# Altium footprint library LTC6401IUD-26TR.PcbLib: 3 footprints
Each footprint in its own frame and in the unit in brackets; x right, y up, seen from the top. Pads: shape width x height; smd on the part's side, far side on the other; paste and mask are expansions set on the pad; w line width, h text height; cw(c..) or ccw(c..) is an arc to the next point about the centre after c.
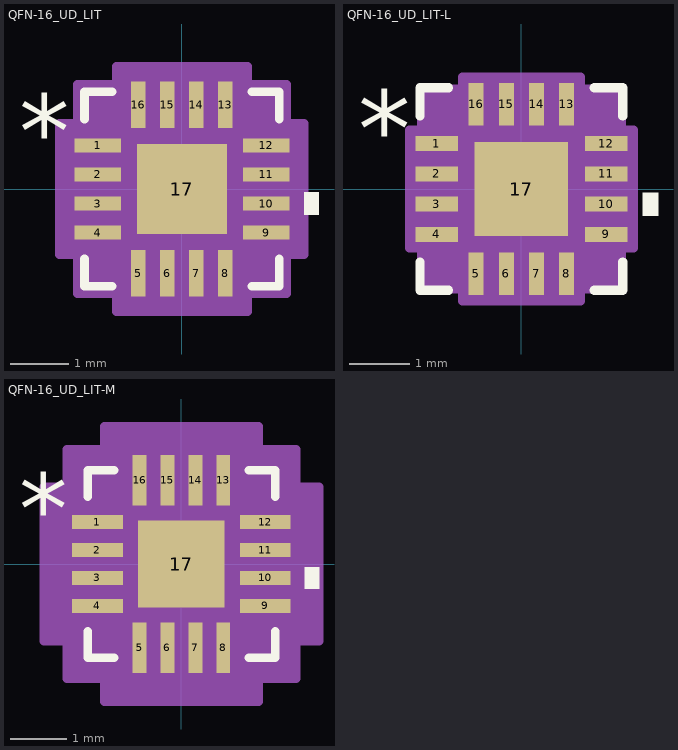
[diagram p0: the footprints below, top view; thin cyan lines are the x and y axes]

## QFN-16_UD_LIT [mm]
pads (17):
  rect 0.805x0.249 smd paste+0 mask+0: 1(-1.452,0.75) 2(-1.452,0.25) 3(-1.452,-0.25) 4(-1.452,-0.75) 9(1.452,-0.75) 10(1.452,-0.25) 11(1.452,0.25) 12(1.452,0.75)
  rect 0.249x0.805 smd paste+0 mask+0: 5(-0.75,-1.452) 6(-0.25,-1.452) 7(0.25,-1.452) 8(0.75,-1.452) 13(0.75,1.452) 14(0.25,1.452) 15(-0.25,1.452) 16(-0.75,1.452)
  rect 1.55x1.55 smd paste+0 mask+0: 17(0,0)
Top Overlay:
  region: 2.109,-0.059 2.363,-0.059 2.363,-0.44 2.109,-0.44
  lines w0.152: -1.677,-1.207 -1.677,-1.677 -1.207,-1.677 ; -1.677,1.207 -1.677,1.677 -1.207,1.677 ; 1.207,-1.677 1.677,-1.677 1.677,-1.207 ; 1.207,1.677 1.677,1.677 1.677,1.207
  text "*" at -2.807,0.365 h1.27
  text ".Designator" at -3.492,-0.635 h1.27
Mechanical 13:
  lines w0.025: -1.55,0.28 -0.28,1.55 ; -1.55,-1.55 1.55,-1.55 ; -1.55,-1.55 -1.55,1.55 ; -1.55,-1.55 -1.55,-1.55 ; -1.55,-0.9 -1.55,-0.6 ; -1.55,-0.9 -1.55,-0.6 ; -1.55,-0.9 -1.55,-0.9 ; -1.55,-0.6 -1.55,-0.6 ; -1.55,-0.4 -1.55,-0.1 ; -1.55,-0.4 -1.55,-0.1 ; -1.55,-0.4 -1.55,-0.4 ; -1.55,-0.1 -1.55,-0.1 ; -1.55,0.1 -1.55,0.4 ; -1.55,0.1 -1.55,0.4 ; -1.55,0.1 -1.55,0.1 ; -1.55,0.4 -1.55,0.4 ; -1.55,0.6 -1.55,0.9 ; -1.55,0.6 -1.55,0.9 ; -1.55,0.6 -1.55,0.6 ; -1.55,0.9 -1.55,0.9 ; -1.55,1.55 1.55,1.55 ; -1.55,1.55 -1.55,1.55 ; -0.9,-1.55 -0.6,-1.55 ; -0.9,-1.55 -0.9,-1.55 ; -0.9,-1.55 -0.6,-1.55 ; -0.9,1.55 -0.6,1.55 ; -0.9,1.55 -0.6,1.55 ; -0.9,1.55 -0.9,1.55 ; -0.6,-1.55 -0.6,-1.55 ; -0.6,1.55 -0.6,1.55 ; -0.4,-1.55 -0.1,-1.55 ; -0.4,-1.55 -0.4,-1.55 ; -0.4,-1.55 -0.1,-1.55 ; -0.4,1.55 -0.1,1.55 ; -0.4,1.55 -0.1,1.55 ; -0.4,1.55 -0.4,1.55 ; -0.1,-1.55 -0.1,-1.55 ; -0.1,1.55 -0.1,1.55 ; 0.1,-1.55 0.4,-1.55 ; 0.1,-1.55 0.1,-1.55 ; 0.1,-1.55 0.4,-1.55 ; 0.1,1.55 0.4,1.55 ; 0.1,1.55 0.4,1.55 ; 0.1,1.55 0.1,1.55 ; 0.4,-1.55 0.4,-1.55 ; 0.4,1.55 0.4,1.55 ; 0.6,-1.55 0.9,-1.55 ; 0.6,-1.55 0.6,-1.55 ; 0.6,-1.55 0.9,-1.55 ; 0.6,1.55 0.9,1.55 ; 0.6,1.55 0.9,1.55 ; 0.6,1.55 0.6,1.55 ; 0.9,-1.55 0.9,-1.55 ; 0.9,1.55 0.9,1.55 ; 1.55,-1.55 1.55,-1.55 ; 1.55,-1.55 1.55,1.55 ; 1.55,-0.9 1.55,-0.6 ; 1.55,-0.9 1.55,-0.9 ; 1.55,-0.9 1.55,-0.6 ; 1.55,-0.6 1.55,-0.6 ; 1.55,-0.4 1.55,-0.1 ; 1.55,-0.4 1.55,-0.4 ; 1.55,-0.4 1.55,-0.1 ; 1.55,-0.1 1.55,-0.1 ; 1.55,0.1 1.55,0.4 ; 1.55,0.1 1.55,0.1 ; 1.55,0.1 1.55,0.4 ; 1.55,0.4 1.55,0.4 ; 1.55,0.6 1.55,0.9 ; 1.55,0.6 1.55,0.6 ; 1.55,0.6 1.55,0.9 ; 1.55,0.9 1.55,0.9 ; 1.55,1.55 1.55,1.55
  text ".Designator" at -3.492,-0.635 h1.27
  text "*" at -1.368,0.365 h1.27
Mechanical 15:
  region: -1.129,-1.804 -1.804,-1.804 -1.804,-1.129 -2.109,-1.129 -2.109,1.129 -1.804,1.129 -1.804,1.804 -1.129,1.804 -1.129,2.109 1.129,2.109 1.129,1.804 1.804,1.804 1.804,1.129 2.109,1.129 2.109,-1.129 1.804,-1.129 1.804,-1.804 1.129,-1.804 1.129,-2.109 -1.129,-2.109
  lines w0.152: -2.109,-1.129 -1.804,-1.129 -1.804,-1.804 -1.129,-1.804 -1.129,-2.109 1.129,-2.109 1.129,-1.804 1.804,-1.804 1.804,-1.129 2.109,-1.129 2.109,1.129 1.804,1.129 1.804,1.804 1.129,1.804 1.129,2.109 -1.129,2.109 -1.129,1.804 -1.804,1.804 -1.804,1.129 -2.109,1.129 -2.109,-1.129
3D body "QFN-16_UD_LIT.step": height 0.8, standoff 0, extent -1.55,-1.55 1.55,1.55

## QFN-16_UD_LIT-L [mm]
pads (17):
  rect 0.703x0.249 smd paste+0 mask+0: 1(-1.402,0.75) 2(-1.402,0.25) 3(-1.402,-0.25) 4(-1.402,-0.75) 9(1.402,-0.75) 10(1.402,-0.25) 11(1.402,0.25) 12(1.402,0.75)
  rect 0.249x0.703 smd paste+0 mask+0: 5(-0.75,-1.402) 6(-0.25,-1.402) 7(0.25,-1.402) 8(0.75,-1.402) 13(0.75,1.402) 14(0.25,1.402) 15(-0.25,1.402) 16(-0.75,1.402)
  rect 1.55x1.55 smd paste+0 mask+0: 17(0,0)
Top Overlay:
  region: 2.007,-0.059 2.261,-0.059 2.261,-0.44 2.007,-0.44
  lines w0.152: -1.677,-1.207 -1.677,-1.677 -1.207,-1.677 ; -1.677,1.207 -1.677,1.677 -1.207,1.677 ; 1.207,-1.677 1.677,-1.677 1.677,-1.207 ; 1.207,1.677 1.677,1.677 1.677,1.207
  text "*" at -2.706,0.365 h1.27
  text ".Designator" at -3.492,-0.635 h1.27
Mechanical 13:
  lines w0.025: -1.55,0.28 -0.28,1.55 ; -1.55,-1.55 1.55,-1.55 ; -1.55,-1.55 -1.55,1.55 ; -1.55,-1.55 -1.55,-1.55 ; -1.55,-0.9 -1.55,-0.6 ; -1.55,-0.9 -1.55,-0.6 ; -1.55,-0.9 -1.55,-0.9 ; -1.55,-0.6 -1.55,-0.6 ; -1.55,-0.4 -1.55,-0.1 ; -1.55,-0.4 -1.55,-0.1 ; -1.55,-0.4 -1.55,-0.4 ; -1.55,-0.1 -1.55,-0.1 ; -1.55,0.1 -1.55,0.4 ; -1.55,0.1 -1.55,0.4 ; -1.55,0.1 -1.55,0.1 ; -1.55,0.4 -1.55,0.4 ; -1.55,0.6 -1.55,0.9 ; -1.55,0.6 -1.55,0.9 ; -1.55,0.6 -1.55,0.6 ; -1.55,0.9 -1.55,0.9 ; -1.55,1.55 1.55,1.55 ; -1.55,1.55 -1.55,1.55 ; -0.9,-1.55 -0.6,-1.55 ; -0.9,-1.55 -0.9,-1.55 ; -0.9,-1.55 -0.6,-1.55 ; -0.9,1.55 -0.6,1.55 ; -0.9,1.55 -0.6,1.55 ; -0.9,1.55 -0.9,1.55 ; -0.6,-1.55 -0.6,-1.55 ; -0.6,1.55 -0.6,1.55 ; -0.4,-1.55 -0.1,-1.55 ; -0.4,-1.55 -0.4,-1.55 ; -0.4,-1.55 -0.1,-1.55 ; -0.4,1.55 -0.1,1.55 ; -0.4,1.55 -0.1,1.55 ; -0.4,1.55 -0.4,1.55 ; -0.1,-1.55 -0.1,-1.55 ; -0.1,1.55 -0.1,1.55 ; 0.1,-1.55 0.4,-1.55 ; 0.1,-1.55 0.1,-1.55 ; 0.1,-1.55 0.4,-1.55 ; 0.1,1.55 0.4,1.55 ; 0.1,1.55 0.4,1.55 ; 0.1,1.55 0.1,1.55 ; 0.4,-1.55 0.4,-1.55 ; 0.4,1.55 0.4,1.55 ; 0.6,-1.55 0.9,-1.55 ; 0.6,-1.55 0.6,-1.55 ; 0.6,-1.55 0.9,-1.55 ; 0.6,1.55 0.9,1.55 ; 0.6,1.55 0.9,1.55 ; 0.6,1.55 0.6,1.55 ; 0.9,-1.55 0.9,-1.55 ; 0.9,1.55 0.9,1.55 ; 1.55,-1.55 1.55,-1.55 ; 1.55,-1.55 1.55,1.55 ; 1.55,-0.9 1.55,-0.6 ; 1.55,-0.9 1.55,-0.9 ; 1.55,-0.9 1.55,-0.6 ; 1.55,-0.6 1.55,-0.6 ; 1.55,-0.4 1.55,-0.1 ; 1.55,-0.4 1.55,-0.4 ; 1.55,-0.4 1.55,-0.1 ; 1.55,-0.1 1.55,-0.1 ; 1.55,0.1 1.55,0.4 ; 1.55,0.1 1.55,0.1 ; 1.55,0.1 1.55,0.4 ; 1.55,0.4 1.55,0.4 ; 1.55,0.6 1.55,0.9 ; 1.55,0.6 1.55,0.6 ; 1.55,0.6 1.55,0.9 ; 1.55,0.9 1.55,0.9 ; 1.55,1.55 1.55,1.55
  text ".Designator" at -3.492,-0.635 h1.27
  text "*" at -1.368,0.365 h1.27
Mechanical 15:
  region: -0.976,-1.652 -1.652,-1.652 -1.652,-0.976 -1.855,-0.976 -1.855,0.976 -1.652,0.976 -1.652,1.652 -0.976,1.652 -0.976,1.855 0.976,1.855 0.976,1.652 1.652,1.652 1.652,0.976 1.855,0.976 1.855,-0.976 1.652,-0.976 1.652,-1.652 0.976,-1.652 0.976,-1.855 -0.976,-1.855
  lines w0.152: -1.855,-0.976 -1.652,-0.976 -1.652,-1.652 -0.976,-1.652 -0.976,-1.855 0.976,-1.855 0.976,-1.652 1.652,-1.652 1.652,-0.976 1.855,-0.976 1.855,0.976 1.652,0.976 1.652,1.652 0.976,1.652 0.976,1.855 -0.976,1.855 -0.976,1.652 -1.652,1.652 -1.652,0.976 -1.855,0.976 -1.855,-0.976
3D body "QFN-16_UD_LIT.step": height 0.8, standoff 0, extent -1.55,-1.55 1.55,1.55

## QFN-16_UD_LIT-M [mm]
pads (17):
  rect 0.906x0.249 smd paste+0 mask+0: 1(-1.503,0.75) 2(-1.503,0.25) 3(-1.503,-0.25) 4(-1.503,-0.75) 9(1.503,-0.75) 10(1.503,-0.25) 11(1.503,0.25) 12(1.503,0.75)
  rect 0.249x0.906 smd paste+0 mask+0: 5(-0.75,-1.503) 6(-0.25,-1.503) 7(0.25,-1.503) 8(0.75,-1.503) 13(0.75,1.503) 14(0.25,1.503) 15(-0.25,1.503) 16(-0.75,1.503)
  rect 1.55x1.55 smd paste+0 mask+0: 17(0,0)
Top Overlay:
  region: 2.21,-0.059 2.464,-0.059 2.464,-0.44 2.21,-0.44
  lines w0.152: -1.677,-1.207 -1.677,-1.677 -1.207,-1.677 ; -1.677,1.207 -1.677,1.677 -1.207,1.677 ; 1.207,-1.677 1.677,-1.677 1.677,-1.207 ; 1.207,1.677 1.677,1.677 1.677,1.207
  text "*" at -2.909,0.365 h1.27
  text ".Designator" at -3.492,-0.635 h1.27
Mechanical 13:
  lines w0.025: -1.55,0.28 -0.28,1.55 ; -1.55,-1.55 1.55,-1.55 ; -1.55,-1.55 -1.55,1.55 ; -1.55,-1.55 -1.55,-1.55 ; -1.55,-0.9 -1.55,-0.6 ; -1.55,-0.9 -1.55,-0.6 ; -1.55,-0.9 -1.55,-0.9 ; -1.55,-0.6 -1.55,-0.6 ; -1.55,-0.4 -1.55,-0.1 ; -1.55,-0.4 -1.55,-0.1 ; -1.55,-0.4 -1.55,-0.4 ; -1.55,-0.1 -1.55,-0.1 ; -1.55,0.1 -1.55,0.4 ; -1.55,0.1 -1.55,0.4 ; -1.55,0.1 -1.55,0.1 ; -1.55,0.4 -1.55,0.4 ; -1.55,0.6 -1.55,0.9 ; -1.55,0.6 -1.55,0.9 ; -1.55,0.6 -1.55,0.6 ; -1.55,0.9 -1.55,0.9 ; -1.55,1.55 1.55,1.55 ; -1.55,1.55 -1.55,1.55 ; -0.9,-1.55 -0.6,-1.55 ; -0.9,-1.55 -0.9,-1.55 ; -0.9,-1.55 -0.6,-1.55 ; -0.9,1.55 -0.6,1.55 ; -0.9,1.55 -0.6,1.55 ; -0.9,1.55 -0.9,1.55 ; -0.6,-1.55 -0.6,-1.55 ; -0.6,1.55 -0.6,1.55 ; -0.4,-1.55 -0.1,-1.55 ; -0.4,-1.55 -0.4,-1.55 ; -0.4,-1.55 -0.1,-1.55 ; -0.4,1.55 -0.1,1.55 ; -0.4,1.55 -0.1,1.55 ; -0.4,1.55 -0.4,1.55 ; -0.1,-1.55 -0.1,-1.55 ; -0.1,1.55 -0.1,1.55 ; 0.1,-1.55 0.4,-1.55 ; 0.1,-1.55 0.1,-1.55 ; 0.1,-1.55 0.4,-1.55 ; 0.1,1.55 0.4,1.55 ; 0.1,1.55 0.4,1.55 ; 0.1,1.55 0.1,1.55 ; 0.4,-1.55 0.4,-1.55 ; 0.4,1.55 0.4,1.55 ; 0.6,-1.55 0.9,-1.55 ; 0.6,-1.55 0.6,-1.55 ; 0.6,-1.55 0.9,-1.55 ; 0.6,1.55 0.9,1.55 ; 0.6,1.55 0.9,1.55 ; 0.6,1.55 0.6,1.55 ; 0.9,-1.55 0.9,-1.55 ; 0.9,1.55 0.9,1.55 ; 1.55,-1.55 1.55,-1.55 ; 1.55,-1.55 1.55,1.55 ; 1.55,-0.9 1.55,-0.6 ; 1.55,-0.9 1.55,-0.9 ; 1.55,-0.9 1.55,-0.6 ; 1.55,-0.6 1.55,-0.6 ; 1.55,-0.4 1.55,-0.1 ; 1.55,-0.4 1.55,-0.4 ; 1.55,-0.4 1.55,-0.1 ; 1.55,-0.1 1.55,-0.1 ; 1.55,0.1 1.55,0.4 ; 1.55,0.1 1.55,0.1 ; 1.55,0.1 1.55,0.4 ; 1.55,0.4 1.55,0.4 ; 1.55,0.6 1.55,0.9 ; 1.55,0.6 1.55,0.6 ; 1.55,0.6 1.55,0.9 ; 1.55,0.9 1.55,0.9 ; 1.55,1.55 1.55,1.55
  text ".Designator" at -3.492,-0.635 h1.27
  text "*" at -1.368,0.365 h1.27
Mechanical 15:
  region: -1.383,-2.058 -2.058,-2.058 -2.058,-1.383 -2.464,-1.383 -2.464,1.383 -2.058,1.383 -2.058,2.058 -1.383,2.058 -1.383,2.464 1.383,2.464 1.383,2.058 2.058,2.058 2.058,1.383 2.464,1.383 2.464,-1.383 2.058,-1.383 2.058,-2.058 1.383,-2.058 1.383,-2.464 -1.383,-2.464
  lines w0.152: -2.464,-1.383 -2.058,-1.383 -2.058,-2.058 -1.383,-2.058 -1.383,-2.464 1.383,-2.464 1.383,-2.058 2.058,-2.058 2.058,-1.383 2.464,-1.383 2.464,1.383 2.058,1.383 2.058,2.058 1.383,2.058 1.383,2.464 -1.383,2.464 -1.383,2.058 -2.058,2.058 -2.058,1.383 -2.464,1.383 -2.464,-1.383
3D body "QFN-16_UD_LIT.step": height 0.8, standoff 0, extent -1.55,-1.55 1.55,1.55